# EAGLE library part 19428-0004 (library con-molex-mx150l)
5.84mm Pitch MX150L Vertical PCB Header, Dual Row, Standard Profile, 6 Circuits
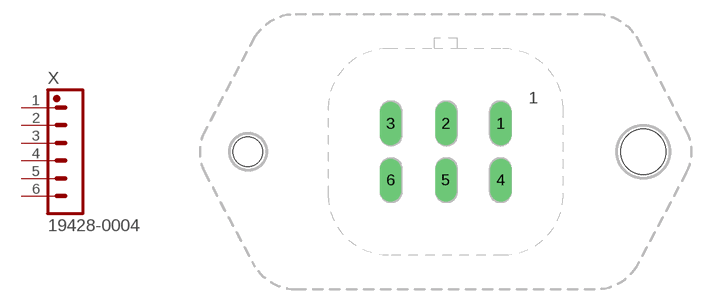
[diagram p0: symbol with the pads of 19428_6POS; footprint 19428_6POS]

Designator prefix X

## 19428-0004 (MFG: Molex; MPN: 19428-0004; VALUE: MX150L)  [19428_6POS]
1  1  pas
2  2  pas
3  3  pas
4  4  pas
5  5  pas
6  6  pas

## Footprint 19428_6POS (pad centres in mm)
drill 1.524 long: 1 5.842,2.997; 2 0,2.997; 3 -5.842,2.997; 4 5.842,-2.997; 5 0,-2.997; 6 -5.842,-2.997
hole 4.775 at 20.955,0
hole 3.124 at -20.955,0